# EAGLE library part ESP32 (library collin)
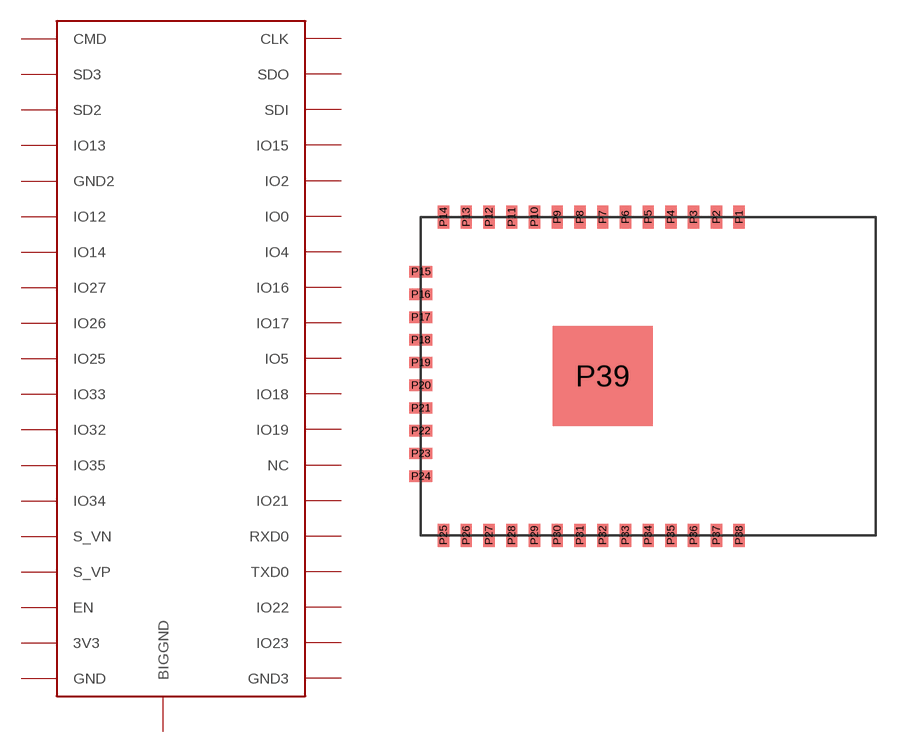
[diagram p6: symbol with the pads of BLE_ESP32; footprint BLE_ESP32]

Designator prefix -

## ESP32  [BLE_ESP32]
P1  GND
P2  3V3
P3  EN
P4  S_VP
P5  S_VN
P6  IO34
P7  IO35
P8  IO32
P9  IO33
P10  IO25
P11  IO26
P12  IO27
P13  IO14
P14  IO12
P15  GND2
P16  IO13
P17  SD2
P18  SD3
P19  CMD
P20  CLK
P21  SDO
P22  SDI
P23  IO15
P24  IO2
P25  IO0
P26  IO4
P27  IO16
P28  IO17
P29  IO5
P30  IO18
P31  IO19
P32  NC
P33  IO21
P34  RXD0
P35  TXD0
P36  IO22
P37  IO23
P38  GND3
P39  BIGGND

## Footprint BLE_ESP32 (pad centres in mm)
smd 0.635 x 1.27: P1 17.78,17.78; P2 16.51,17.78; P3 15.24,17.78; P4 13.97,17.78; P5 12.7,17.78; P6 11.43,17.78; P7 10.16,17.78; P8 8.89,17.78; P9 7.62,17.78; P10 6.35,17.78; P11 5.08,17.78; P12 3.81,17.78; P13 2.54,17.78; P14 1.27,17.78; P25 1.27,0; P26 2.54,0; P27 3.81,0; P28 5.08,0; P29 6.35,0; P30 7.62,0; P31 8.89,0; P32 10.16,0; P33 11.43,0; P34 12.7,0; P35 13.97,0; P36 15.24,0; P37 16.51,0; P38 17.78,0
smd 1.27 x 0.635: P15 0,14.732; P16 0,13.462; P17 0,12.192; P18 0,10.922; P19 0,9.652; P20 0,8.382; P21 0,7.112; P22 0,5.842; P23 0,4.572; P24 0,3.302
smd 5.588 x 5.588: P39 10.16,8.89